# Altium footprint library General_PCB_Library.PcbLib: 5 footprints
Each footprint in its own frame and in the unit in brackets; x right, y up, seen from the top. Pads: shape width x height; smd on the part's side, far side on the other; paste and mask are expansions set on the pad; w line width, h text height; cw(c..) or ccw(c..) is an arc to the next point about the centre after c.
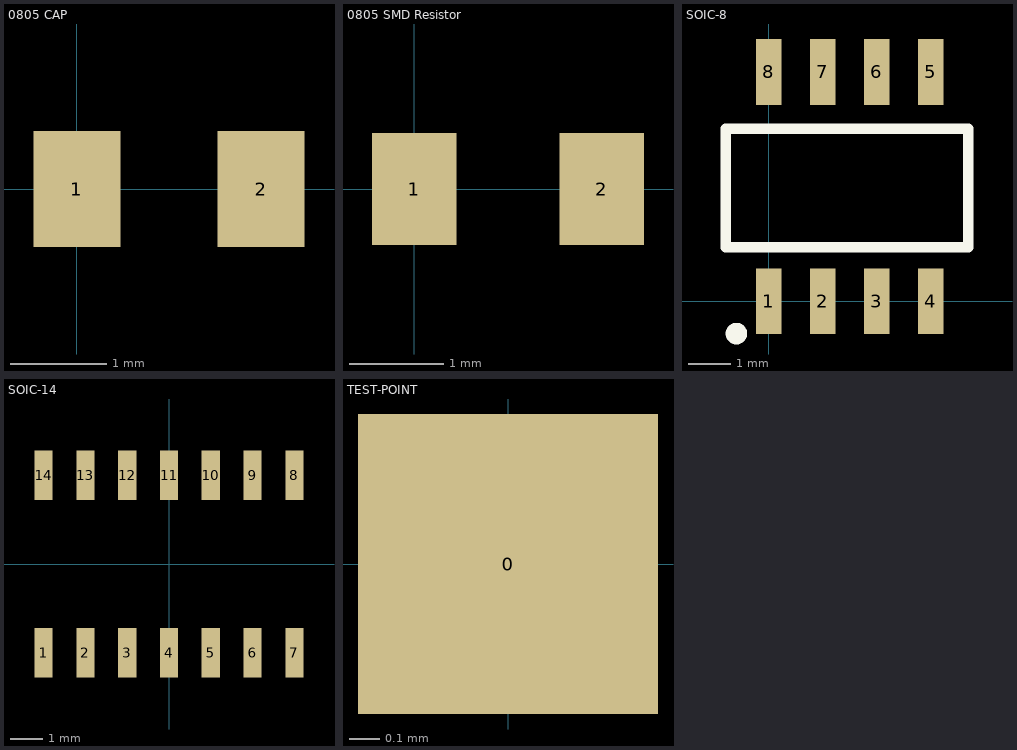
[diagram p0: the footprints below, top view; thin cyan lines are the x and y axes]

## 0805 CAP [mm] "0805 CAP"
pads (2):
  rect 0.9x1.2 smd: 1(0,0) 2(1.905,0)
3D body "CAP0805.stp": height 0.78, standoff 0, extent 0.016,-0.625 2.016,0.625

## 0805 SMD Resistor [mm] "0805 SMD Resistor"
pads (2):
  rect 0.9x1.2 smd: 1(0,0) 2(2,0)
3D body "User Library-RES_2013-0805.step": height 0.76, standoff 0, extent -0.134,-0.675 2.166,0.675

## SOIC-8 [mm] "Generic 8-pin SOIC package"
pads (8):
  rect 0.6x1.55 smd: 1(0,0) 2(1.27,0) 3(2.54,0) 4(3.81,0) 5(3.81,5.4) 6(2.54,5.4) 7(1.27,5.4) 8(0,5.4)
Top Overlay:
  circle w0.254: c-0.762,-0.762 r0.127
  lines w0.254: -1.016,1.27 -1.016,4.064 4.699,4.064 4.699,1.27 -1.016,1.27
3D body "CircuitWorks-SO-8.step": height 1.45, standoff 0, extent -0.584,-0.222 4.318,5.556

## SOIC-14 [mm] "Generic narrow SOIC-14 package"
pads (14):
  rect 0.55x1.5 smd: 1(-3.81,-2.7) 2(-2.54,-2.7) 3(-1.27,-2.7) 4(0,-2.7) 5(1.27,-2.7) 6(2.54,-2.7) 7(3.81,-2.7) 8(3.81,2.7) 9(2.54,2.7) 10(1.27,2.7) 11(0,2.7) 12(-1.27,2.7) 13(-2.54,2.7) 14(-3.81,2.7)
3D body "SO14 Narrow  3.9mm.step": height 1.35, standoff 0, extent -4.325,-2.99 4.325,2.99

## TEST-POINT [mm]
pads (1):
  rect 1x1 smd: 0(0,0)